# Altium footprint library SO-18.PcbLib: 1 footprints
Each footprint in its own frame and in the unit in brackets; x right, y up, seen from the top. Pads: shape width x height; smd on the part's side, far side on the other; paste and mask are expansions set on the pad; w line width, h text height; cw(c..) or ccw(c..) is an arc to the next point about the centre after c.
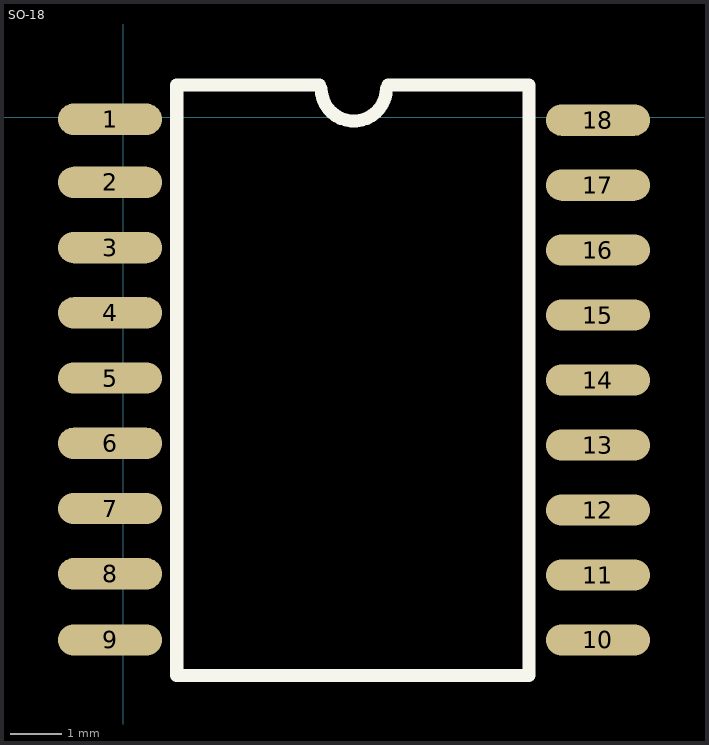
[diagram p0: the footprint, top view; thin cyan lines are the x and y axes]

## SO-18 [mil]
pads (18):
  oval 80x24 smd: 1(-10.22,-1.44) 2(-10.22,-49.81) 3(-10.22,-99.81) 4(-10.22,-149.81) 5(-10.22,-199.81) 6(-10.22,-249.81) 7(-10.22,-299.81) 8(-10.22,-349.81) 9(-10.22,-400.57) 10(363.83,-400.57) 11(363.83,-350.76) 12(363.83,-300.95) 13(363.83,-251.14) 14(363.83,-201.33) 15(363.83,-151.52) 16(363.83,-101.71) 17(363.83,-51.9) 18(363.83,-2.09)
TopOverlay:
  lines w10: 150.19,25 40.93,25 40.93,-427.73 310.94,-427.73 310.94,25 202.96,25 ; 151.64,22.2 ccw(c176.64,22.2) 201.64,22.2
3D body: height 104.33, standoff 0, extent -24.95,-427.61 380.56,26.33